# Altium footprint library Capacitor_THT.PcbLib: 378 footprints (part 3 of 24)
Each footprint in its own frame and in the unit in brackets; x right, y up, seen from the top. Pads: shape width x height; smd on the part's side, far side on the other; paste and mask are expansions set on the pad; w line width, h text height; cw(c..) or ccw(c..) is an arc to the next point about the centre after c.
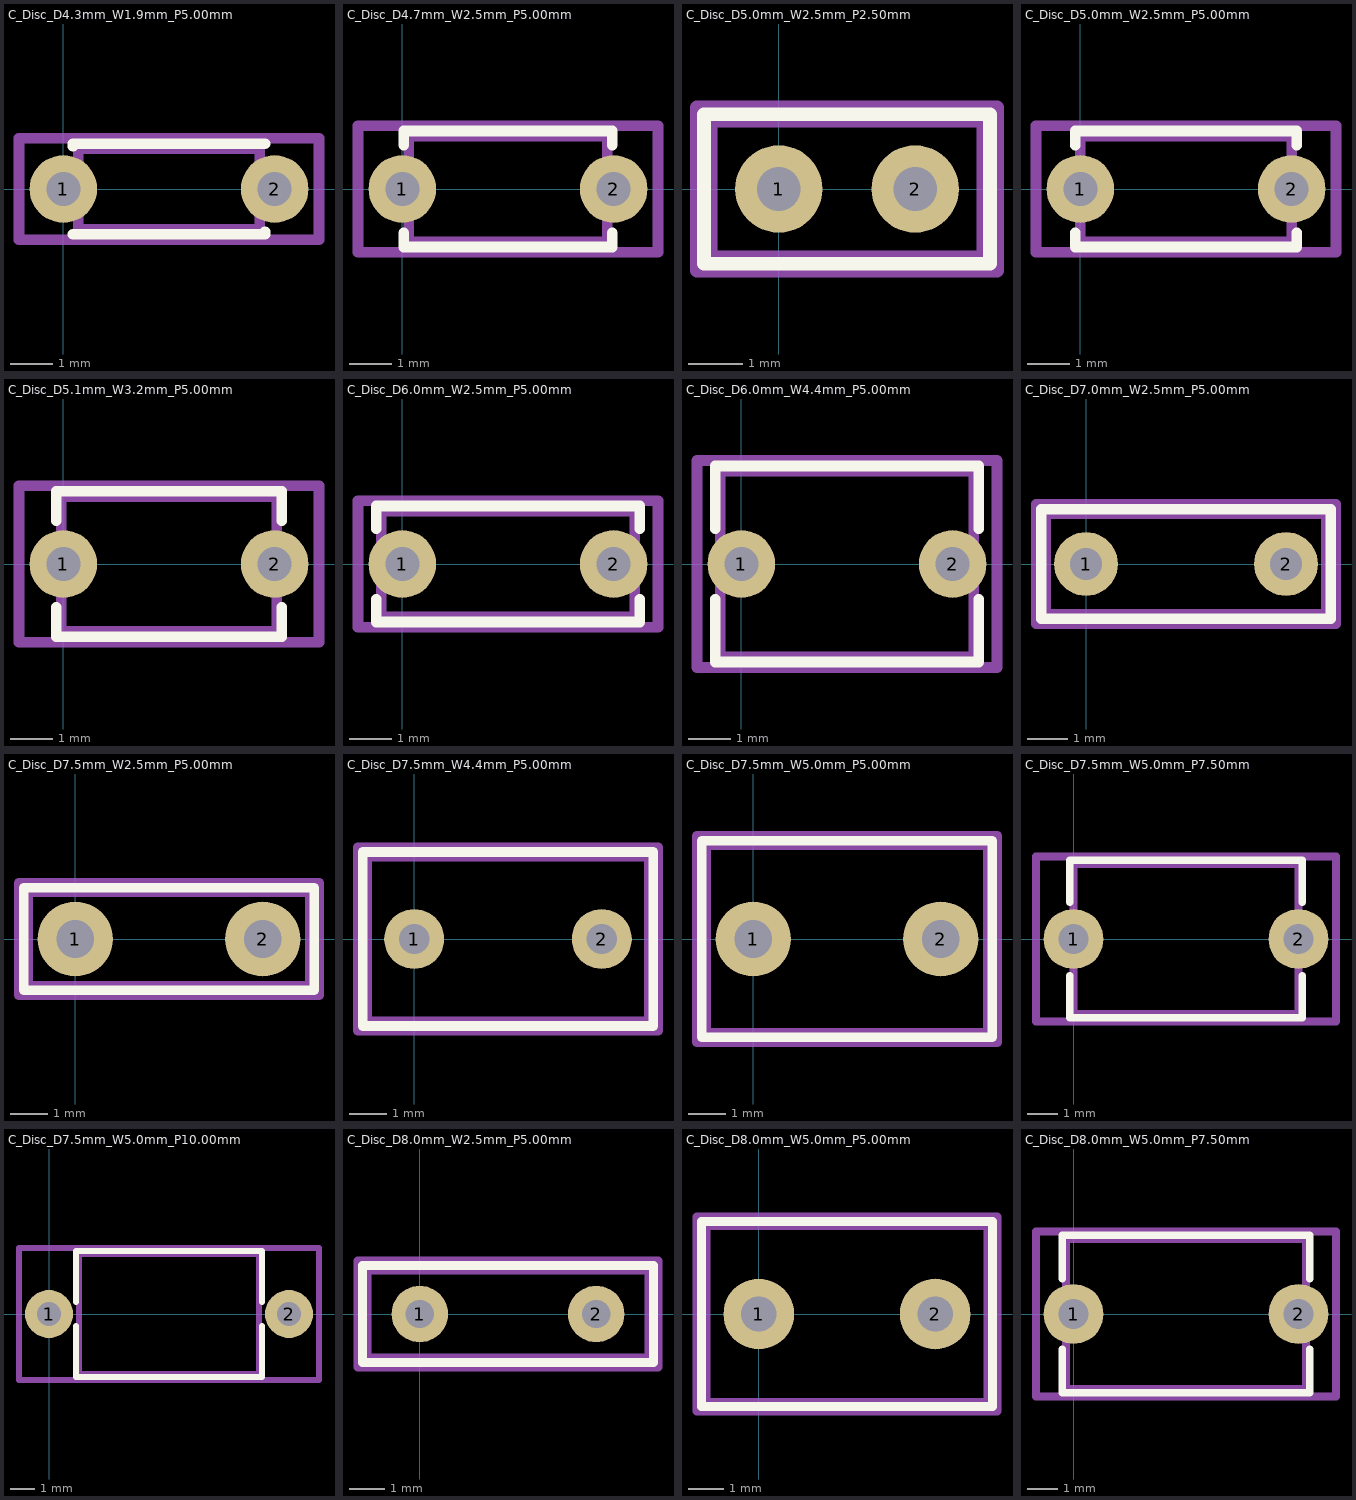
[diagram p2: the footprints below, top view; thin cyan lines are the x and y axes]

## C_Disc_D4.3mm_W1.9mm_P5.00mm [mm] "C_Disc_D4.3mm_W1.9mm_P5.00mm"
pads (2):
  round 1.6 hole 0.8: 1(0,0) 2(5,0)
F.SilkS:
  lines w0.254: 0.23,-1.07 4.77,-1.07 4.77,-1.014 ; 0.23,1.014 0.23,1.07 4.77,1.07
Top Component Center:
  lines w0.127: -0.127,0 0.127,0 ; 0,-0.127 0,0.127
Top Assembly:
  lines w0.254: 0.35,-0.95 4.65,-0.95 4.65,0.95 0.35,0.95 0.35,-0.95
Top Courtyard:
  lines w0.254: -1.05,-1.2 6.05,-1.2 6.05,1.2 -1.05,1.2 -1.05,-1.2
Top Designator:
  text ".Designator" at 0.288,-0.861 h1
3D body "C_Disc_D4.3mm_W1.9mm_P5.00mm.step": height 4.39, standoff -2, extent -0.248,-0.95 5.248,0.95

## C_Disc_D4.7mm_W2.5mm_P5.00mm [mm] "C_Disc_D4.7mm_W2.5mm_P5.00mm"
pads (2):
  round 1.6 hole 0.8: 1(0,0) 2(5,0)
F.SilkS:
  lines w0.254: 0.03,-1.04 0.03,-1.37 4.97,-1.37 4.97,-1.04 ; 0.03,1.04 0.03,1.37 4.97,1.37 4.97,1.04
Top Component Center:
  lines w0.127: -0.127,0 0.127,0 ; 0,-0.127 0,0.127
Top Assembly:
  lines w0.254: 0.15,-1.25 0.15,1.25 4.85,1.25 4.85,-1.25 0.15,-1.25
Top Courtyard:
  lines w0.254: -1.05,-1.5 -1.05,1.5 6.05,1.5 6.05,-1.5 -1.05,-1.5
Top Designator:
  text ".Designator" at 0.288,-1.115 h1
3D body "C_Disc_D4.7mm_W2.5mm_P5.00mm.step": height 4.8, standoff -2, extent -0.248,-1.25 5.248,1.25

## C_Disc_D5.0mm_W2.5mm_P2.50mm [mm] "C_Disc_D5.0mm_W2.5mm_P2.50mm"
pads (2):
  round 1.6 hole 0.8: 1(0,0) 2(2.5,0)
F.SilkS:
  lines w0.254: -1.37,-1.37 -1.37,1.37 3.87,1.37 3.87,-1.37 -1.37,-1.37
Top Component Center:
  lines w0.127: -0.127,0 0.127,0 ; 0,-0.127 0,0.127
Top Assembly:
  lines w0.254: -1.25,-1.25 -1.25,1.25 3.75,1.25 3.75,-1.25 -1.25,-1.25
Top Courtyard:
  lines w0.254: -1.5,-1.5 -1.5,1.5 4,1.5 4,-1.5 -1.5,-1.5
Top Designator:
  text ".Designator" at -0.982,-0.988 h1
3D body "C_Disc_D5.0mm_W2.5mm_P2.50mm.step": height 5.1, standoff -2, extent -1.25,-1.25 3.748,1.25

## C_Disc_D5.0mm_W2.5mm_P5.00mm [mm] "C_Disc_D5.0mm_W2.5mm_P5.00mm"
pads (2):
  round 1.6 hole 0.8: 1(0,0) 2(5,0)
F.SilkS:
  lines w0.254: -0.12,-1.033 -0.12,-1.37 5.12,-1.37 5.12,-1.033 ; -0.12,1.033 -0.12,1.37 5.12,1.37 5.12,1.033
Top Component Center:
  lines w0.127: -0.127,0 0.127,0 ; 0,-0.127 0,0.127
Top Assembly:
  lines w0.254: 0,-1.25 0,1.25 5,1.25 5,-1.25 0,-1.25
Top Courtyard:
  lines w0.254: -1.05,-1.5 -1.05,1.5 6.05,1.5 6.05,-1.5 -1.05,-1.5
Top Designator:
  text ".Designator" at 0.161,-0.988 h1
3D body "C_Disc_D5.0mm_W2.5mm_P5.00mm.step": height 5.1, standoff -2, extent -0.248,-1.25 5.248,1.25

## C_Disc_D5.1mm_W3.2mm_P5.00mm [mm] "C_Disc_D5.1mm_W3.2mm_P5.00mm"
pads (2):
  round 1.6 hole 0.8: 1(0,0) 2(5,0)
F.SilkS:
  lines w0.254: -0.17,-1.026 -0.17,-1.72 5.17,-1.72 5.17,-1.026 ; -0.17,1.026 -0.17,1.72 5.17,1.72 5.17,1.026
Top Component Center:
  lines w0.127: -0.127,0 0.127,0 ; 0,-0.127 0,0.127
Top Assembly:
  lines w0.254: -0.05,-1.6 5.05,-1.6 5.05,1.6 -0.05,1.6 -0.05,-1.6
Top Courtyard:
  lines w0.254: -1.05,-1.85 6.05,-1.85 6.05,1.85 -1.05,1.85 -1.05,-1.85
Top Designator:
  text ".Designator" at 0.288,-1.242 h1
3D body "C_Disc_D5.1mm_W3.2mm_P5.00mm.step": height 5.2, standoff -2, extent -0.248,-1.6 5.248,1.6

## C_Disc_D6.0mm_W2.5mm_P5.00mm [mm] "C_Disc_D6.0mm_W2.5mm_P5.00mm"
pads (2):
  round 1.6 hole 0.8: 1(0,0) 2(5,0)
F.SilkS:
  lines w0.254: -0.62,-0.835 -0.62,-1.37 5.62,-1.37 5.62,-0.835 ; -0.62,0.835 -0.62,1.37 5.62,1.37 5.62,0.835
Top Component Center:
  lines w0.127: -0.127,0 0.127,0 ; 0,-0.127 0,0.127
Top Assembly:
  lines w0.254: -0.5,-1.25 -0.5,1.25 5.5,1.25 5.5,-1.25 -0.5,-1.25
Top Courtyard:
  lines w0.254: -1.05,-1.5 -1.05,1.5 6.05,1.5 6.05,-1.5 -1.05,-1.5
Top Designator:
  text ".Designator" at 0.161,-0.988 h1
3D body "C_Disc_D6.0mm_W2.5mm_P5.00mm.step": height 6.1, standoff -2, extent -0.5,-1.25 5.5,1.25

## C_Disc_D6.0mm_W4.4mm_P5.00mm [mm] "C_Disc_D6.0mm_W4.4mm_P5.00mm"
pads (2):
  round 1.6 hole 0.8: 1(0,0) 2(5,0)
F.SilkS:
  lines w0.254: -0.62,-0.835 -0.62,-2.32 5.62,-2.32 5.62,-0.835 ; -0.62,0.835 -0.62,2.32 5.62,2.32 5.62,0.835
Top Component Center:
  lines w0.127: -0.127,0 0.127,0 ; 0,-0.127 0,0.127
Top Assembly:
  lines w0.254: -0.5,-2.2 -0.5,2.2 5.5,2.2 5.5,-2.2 -0.5,-2.2
Top Courtyard:
  lines w0.254: -1.05,-2.45 -1.05,2.45 6.05,2.45 6.05,-2.45 -1.05,-2.45
Top Designator:
  text ".Designator" at -0.767,-1.996 h1.52
3D body "C_Disc_D6.0mm_W4.4mm_P5.00mm.step": height 6.1, standoff -2, extent -0.5,-2.2 5.5,2.2

## C_Disc_D7.0mm_W2.5mm_P5.00mm [mm] "C_Disc_D7.0mm_W2.5mm_P5.00mm"
pads (2):
  round 1.6 hole 0.8: 1(0,0) 2(5,0)
F.SilkS:
  lines w0.254: -1.12,-1.37 -1.12,1.37 6.12,1.37 6.12,-1.37 -1.12,-1.37
Top Component Center:
  lines w0.127: -0.127,0 0.127,0 ; 0,-0.127 0,0.127
Top Assembly:
  lines w0.254: -1,-1.25 -1,1.25 6,1.25 6,-1.25 -1,-1.25
Top Courtyard:
  lines w0.254: -1.25,-1.5 -1.25,1.5 6.25,1.5 6.25,-1.5 -1.25,-1.5
Top Designator:
  text ".Designator" at 0.415,-1.115 h1
3D body "C_Disc_D7.0mm_W2.5mm_P5.00mm.step": height 7.09, standoff -2, extent -1,-1.25 6,1.25

## C_Disc_D7.5mm_W2.5mm_P5.00mm [mm] "C_Disc_D7.5mm_W2.5mm_P5.00mm"
pads (2):
  round 2 hole 1: 1(0,0) 2(5,0)
F.SilkS:
  lines w0.254: -1.37,-1.37 -1.37,1.37 6.37,1.37 6.37,-1.37 -1.37,-1.37
Top Component Center:
  lines w0.127: -0.127,0 0.127,0 ; 0,-0.127 0,0.127
Top Assembly:
  lines w0.254: -1.25,-1.25 -1.25,1.25 6.25,1.25 6.25,-1.25 -1.25,-1.25
Top Courtyard:
  lines w0.254: -1.5,-1.5 -1.5,1.5 6.5,1.5 6.5,-1.5 -1.5,-1.5
Top Designator:
  text ".Designator" at 0.669,-0.988 h1
3D body "C_Disc_D7.5mm_W2.5mm_P5.00mm.step": height 7.6, standoff -2, extent -1.25,-1.25 6.241,1.25

## C_Disc_D7.5mm_W4.4mm_P5.00mm [mm] "C_Disc_D7.5mm_W4.4mm_P5.00mm"
pads (2):
  round 1.6 hole 0.8: 1(0,0) 2(5,0)
F.SilkS:
  lines w0.254: -1.37,-2.32 -1.37,2.32 6.37,2.32 6.37,-2.32 -1.37,-2.32
Top Component Center:
  lines w0.127: -0.127,0 0.127,0 ; 0,-0.127 0,0.127
Top Assembly:
  lines w0.254: -1.25,-2.2 -1.25,2.2 6.25,2.2 6.25,-2.2 -1.25,-2.2
Top Courtyard:
  lines w0.254: -1.5,-2.45 -1.5,2.45 6.5,2.45 6.5,-2.45 -1.5,-2.45
Top Designator:
  text ".Designator" at -0.894,-1.869 h1.52
3D body "C_Disc_D7.5mm_W4.4mm_P5.00mm.step": height 7.6, standoff -2, extent -1.25,-2.2 6.243,2.2

## C_Disc_D7.5mm_W5.0mm_P5.00mm [mm] "C_Disc_D7.5mm_W5.0mm_P5.00mm"
pads (2):
  round 2 hole 1: 1(0,0) 2(5,0)
F.SilkS:
  lines w0.254: -1.37,-2.62 -1.37,2.62 6.37,2.62 6.37,-2.62 -1.37,-2.62
Top Component Center:
  lines w0.127: -0.127,0 0.127,0 ; 0,-0.127 0,0.127
Top Assembly:
  lines w0.254: -1.25,-2.5 -1.25,2.5 6.25,2.5 6.25,-2.5 -1.25,-2.5
Top Courtyard:
  lines w0.254: -1.5,-2.75 -1.5,2.75 6.5,2.75 6.5,-2.75 -1.5,-2.75
Top Designator:
  text ".Designator" at -0.894,-2.123 h1.52
3D body "C_Disc_D7.5mm_W5.0mm_P5.00mm.step": height 7.6, standoff -2, extent -1.25,-2.5 6.241,2.5

## C_Disc_D7.5mm_W5.0mm_P7.50mm [mm] "C_Disc_D7.5mm_W5.0mm_P7.50mm"
pads (2):
  round 2 hole 1: 1(0,0) 2(7.5,0)
F.SilkS:
  lines w0.254: -0.12,-1.234 -0.12,-2.62 7.62,-2.62 7.62,-1.234 ; -0.12,1.234 -0.12,2.62 7.62,2.62 7.62,1.234
Top Component Center:
  lines w0.127: -0.127,0 0.127,0 ; 0,-0.127 0,0.127
Top Assembly:
  lines w0.254: 0,-2.5 7.5,-2.5 7.5,2.5 0,2.5 0,-2.5
Top Courtyard:
  lines w0.254: -1.25,-2.75 8.75,-2.75 8.75,2.75 -1.25,2.75 -1.25,-2.75
Top Designator:
  text ".Designator" at 0.376,-0.472 h1.52
3D body "C_Disc_D7.5mm_W5.0mm_P7.50mm.step": height 7.6, standoff -2, extent -0.347,-2.5 7.847,2.5

## C_Disc_D7.5mm_W5.0mm_P10.00mm [mm] "C_Disc_D7.5mm_W5.0mm_P10.00mm"
pads (2):
  round 2 hole 1: 1(0,0) 2(10,0)
F.SilkS:
  lines w0.254: 1.13,-0.511 1.13,-2.62 8.87,-2.62 8.87,-0.511 ; 1.13,0.511 1.13,2.62 8.87,2.62 8.87,0.511
Top Component Center:
  lines w0.127: -0.127,0 0.127,0 ; 0,-0.127 0,0.127
Top Assembly:
  lines w0.254: 1.25,-2.5 8.75,-2.5 8.75,2.5 1.25,2.5 1.25,-2.5
Top Courtyard:
  lines w0.254: -1.25,-2.75 11.25,-2.75 11.25,2.75 -1.25,2.75 -1.25,-2.75
Top Designator:
  text ".Designator" at 1.566,-0.345 h1.52
3D body "C_Disc_D7.5mm_W5.0mm_P10.00mm.step": height 7.6, standoff -2, extent -0.347,-2.5 10.347,2.5

## C_Disc_D8.0mm_W2.5mm_P5.00mm [mm] "C_Disc_D8.0mm_W2.5mm_P5.00mm"
pads (2):
  round 1.6 hole 0.8: 1(0,0) 2(5,0)
F.SilkS:
  lines w0.254: -1.62,-1.37 -1.62,1.37 6.62,1.37 6.62,-1.37 -1.62,-1.37
Top Component Center:
  lines w0.127: -0.127,0 0.127,0 ; 0,-0.127 0,0.127
Top Assembly:
  lines w0.254: -1.5,-1.25 -1.5,1.25 6.5,1.25 6.5,-1.25 -1.5,-1.25
Top Courtyard:
  lines w0.254: -1.75,-1.5 -1.75,1.5 6.75,1.5 6.75,-1.5 -1.75,-1.5
Top Designator:
  text ".Designator" at -0.64,-1.234 h1.52
3D body "C_Disc_D8.0mm_W2.5mm_P5.00mm.step": height 8.1, standoff -2, extent -1.5,-1.25 6.495,1.25

## C_Disc_D8.0mm_W5.0mm_P5.00mm [mm] "C_Disc_D8.0mm_W5.0mm_P5.00mm"
pads (2):
  round 2 hole 1: 1(0,0) 2(5,0)
F.SilkS:
  lines w0.254: -1.62,-2.62 6.62,-2.62 6.62,2.62 -1.62,2.62 -1.62,-2.62
Top Component Center:
  lines w0.127: -0.127,0 0.127,0 ; 0,-0.127 0,0.127
Top Assembly:
  lines w0.254: -1.5,-2.5 6.5,-2.5 6.5,2.5 -1.5,2.5 -1.5,-2.5
Top Courtyard:
  lines w0.254: -1.75,-2.75 6.75,-2.75 6.75,2.75 -1.75,2.75 -1.75,-2.75
Top Designator:
  text ".Designator" at -0.894,-2.123 h1.52
3D body "C_Disc_D8.0mm_W5.0mm_P5.00mm.step": height 8.1, standoff -2, extent -1.5,-2.5 6.5,2.5

## C_Disc_D8.0mm_W5.0mm_P7.50mm [mm] "C_Disc_D8.0mm_W5.0mm_P7.50mm"
pads (2):
  round 2 hole 1: 1(0,0) 2(7.5,0)
F.SilkS:
  lines w0.254: -0.37,-1.184 -0.37,-2.62 7.87,-2.62 7.87,-1.184 ; -0.37,1.184 -0.37,2.62 7.87,2.62 7.87,1.184
Top Component Center:
  lines w0.127: -0.127,0 0.127,0 ; 0,-0.127 0,0.127
Top Assembly:
  lines w0.254: -0.25,-2.5 7.75,-2.5 7.75,2.5 -0.25,2.5 -0.25,-2.5
Top Courtyard:
  lines w0.254: -1.25,-2.75 8.75,-2.75 8.75,2.75 -1.25,2.75 -1.25,-2.75
Top Designator:
  text ".Designator" at 0.376,-0.472 h1.52
3D body "C_Disc_D8.0mm_W5.0mm_P7.50mm.step": height 8.1, standoff -2, extent -0.347,-2.5 7.847,2.5